# Altium footprint library Module_Footprints.PcbLib: 2 footprints
Each footprint in its own frame and in the unit in brackets; x right, y up, seen from the top. Pads: shape width x height; smd on the part's side, far side on the other; paste and mask are expansions set on the pad; w line width, h text height; cw(c..) or ccw(c..) is an arc to the next point about the centre after c.
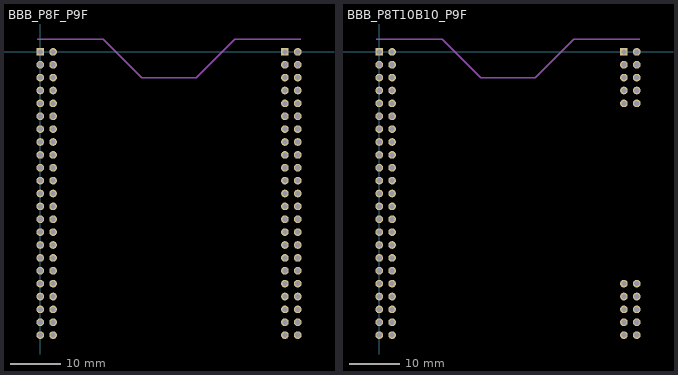
[diagram p0: the footprints below, top view; thin cyan lines are the x and y axes]

## BBB_P8F_P9F [mil] "Beaglebone Black Connector with full population for P8 and P9"
pads (92):
  rect 60x60 hole 40: 801(1900,0) 901(0,0)
  round 60 hole 40: 802(2000,0) 803(1900,-100) 804(2000,-100) 805(1900,-200) 806(2000,-200) 807(1900,-300) 808(2000,-300) 809(1900,-400) 810(2000,-400) 811(1900,-500) 812(2000,-500) 813(1900,-600) 814(2000,-600) 815(1900,-700) 816(2000,-700) 817(1900,-800) 818(2000,-800) 819(1900,-900) 820(2000,-900) 821(1900,-1000) 822(2000,-1000) 823(1900,-1100) 824(2000,-1100) 825(1900,-1200) 826(2000,-1200) 827(1900,-1300) 828(2000,-1300) 829(1900,-1400) 830(2000,-1400) 831(1900,-1500) 832(2000,-1500) 833(1900,-1600) 834(2000,-1600) 835(1900,-1700) 836(2000,-1700) 837(1900,-1800) 838(2000,-1800) 839(1900,-1900) 840(2000,-1900) 841(1900,-2000) 842(2000,-2000) 843(1900,-2100) 844(2000,-2100) 845(1900,-2200) 846(2000,-2200) 902(100,0) 903(0,-100) 904(100,-100) 905(0,-200) 906(100,-200) 907(0,-300) 908(100,-300) 909(0,-400) 910(100,-400) 911(0,-500) 912(100,-500) 913(0,-600) 914(100,-600) 915(0,-700) 916(100,-700) 917(0,-800) 918(100,-800) 919(0,-900) 920(100,-900) 921(0,-1000) 922(100,-1000) 923(0,-1100) 924(100,-1100) 925(0,-1200) 926(100,-1200) 927(0,-1300) 928(100,-1300) 929(0,-1400) 930(100,-1400) 931(0,-1500) 932(100,-1500) 933(0,-1600) 934(100,-1600) 935(0,-1700) 936(100,-1700) 937(0,-1800) 938(100,-1800) 939(0,-1900) 940(100,-1900) 941(0,-2000) 942(100,-2000) 943(0,-2100) 944(100,-2100) 945(0,-2200) 946(100,-2200)
Mechanical 13:
  lines w10: -25,100 487.5,100 787.5,-200 1212.5,-200 1512.5,100 2025,100

## BBB_P8T10B10_P9F [mil] "Beaglebone Black Connector with full population for P8 and P9"
pads (66):
  rect 60x60 hole 40: 801(1900,0) 901(0,0)
  round 60 hole 40: 802(2000,0) 803(1900,-100) 804(2000,-100) 805(1900,-200) 806(2000,-200) 807(1900,-300) 808(2000,-300) 809(1900,-400) 810(2000,-400) 837(1900,-1800) 838(2000,-1800) 839(1900,-1900) 840(2000,-1900) 841(1900,-2000) 842(2000,-2000) 843(1900,-2100) 844(2000,-2100) 845(1900,-2200) 846(2000,-2200) 902(100,0) 903(0,-100) 904(100,-100) 905(0,-200) 906(100,-200) 907(0,-300) 908(100,-300) 909(0,-400) 910(100,-400) 911(0,-500) 912(100,-500) 913(0,-600) 914(100,-600) 915(0,-700) 916(100,-700) 917(0,-800) 918(100,-800) 919(0,-900) 920(100,-900) 921(0,-1000) 922(100,-1000) 923(0,-1100) 924(100,-1100) 925(0,-1200) 926(100,-1200) 927(0,-1300) 928(100,-1300) 929(0,-1400) 930(100,-1400) 931(0,-1500) 932(100,-1500) 933(0,-1600) 934(100,-1600) 935(0,-1700) 936(100,-1700) 937(0,-1800) 938(100,-1800) 939(0,-1900) 940(100,-1900) 941(0,-2000) 942(100,-2000) 943(0,-2100) 944(100,-2100) 945(0,-2200) 946(100,-2200)
Mechanical 13:
  lines w10: -25,100 487.5,100 787.5,-200 1212.5,-200 1512.5,100 2025,100